# Altium footprint library PcbLib2.PcbLib: 58 footprints (part 4 of 4)
Each footprint in its own frame and in the unit in brackets; x right, y up, seen from the top. Pads: shape width x height; smd on the part's side, far side on the other; paste and mask are expansions set on the pad; w line width, h text height; cw(c..) or ccw(c..) is an arc to the next point about the centre after c.
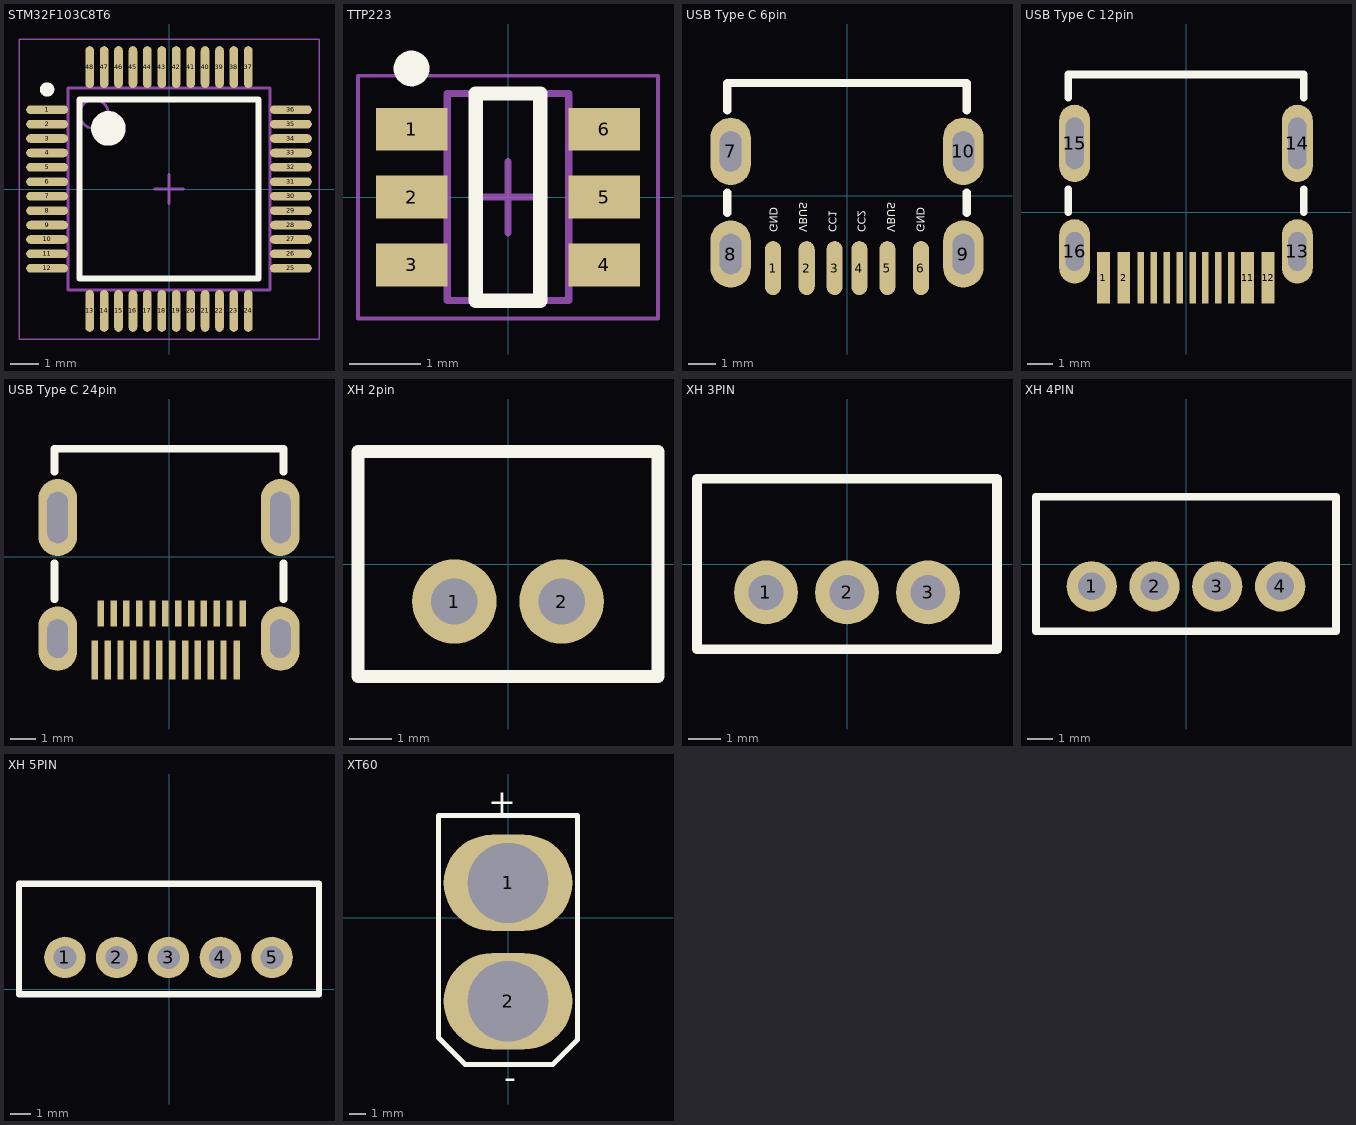
[diagram p3: the footprints below, top view; thin cyan lines are the x and y axes]

## STM32F103C8T6 [mm] "TSQFP, 48-Leads, Body 7.00x7.00mm, Pitch 0.50mm, IPC Medium Density"
height 1.6
pads (48):
  oval 1.45x0.3 smd: 1(-4.225,2.75) 2(-4.225,2.25) 3(-4.225,1.75) 4(-4.225,1.25) 5(-4.225,0.75) 6(-4.225,0.25) 7(-4.225,-0.25) 8(-4.225,-0.75) 9(-4.225,-1.25) 10(-4.225,-1.75) 11(-4.225,-2.25) 12(-4.225,-2.75) 25(4.225,-2.75) 26(4.225,-2.25) 27(4.225,-1.75) 28(4.225,-1.25) 29(4.225,-0.75) 30(4.225,-0.25) 31(4.225,0.25) 32(4.225,0.75) 33(4.225,1.25) 34(4.225,1.75) 35(4.225,2.25) 36(4.225,2.75)
  oval 0.3x1.45 smd: 13(-2.75,-4.225) 14(-2.25,-4.225) 15(-1.75,-4.225) 16(-1.25,-4.225) 17(-0.75,-4.225) 18(-0.25,-4.225) 19(0.25,-4.225) 20(0.75,-4.225) 21(1.25,-4.225) 22(1.75,-4.225) 23(2.25,-4.225) 24(2.75,-4.225) 37(2.75,4.225) 38(2.25,4.225) 39(1.75,4.225) 40(1.25,4.225) 41(0.75,4.225) 42(0.25,4.225) 43(-0.25,4.225) 44(-0.75,4.225) 45(-1.25,4.225) 46(-1.75,4.225) 47(-2.25,4.225) 48(-2.75,4.225)
Top Overlay:
  circle w0.25: c-4.225,3.45 r0.125
  circle w0.6: c-2.1,2.1 r0.3
  lines w0.2: -3.1,-3.1 -3.1,3.1 3.1,3.1 3.1,-3.1 -3.1,-3.1
Mechanical 13:
  circle w0.1: c-2.6,2.6 r0.5
  lines w0.1: -3.5,-3.5 -3.5,3.5 3.5,3.5 3.5,-3.5 -3.5,-3.5
Mechanical 15:
  lines w0.05: -5.2,-5.2 -5.2,5.2 5.2,5.2 5.2,-5.2 -5.2,-5.2
  lines w0.1: -0.5,0 0.5,0 ; 0,-0.5 0,0.5
3D body "TSQFP50P900X900X160-48N.step": height 1.6, standoff 0, extent -4.5,-4.5 4.5,4.5

## TTP223 [mm] "SOT23, 6-Leads, Body 2.90x2.85mm, Pitch 0.95mm, IPC Medium Density"
height 1.26
pads (6):
  rect 1x0.6 smd: 1(-1.35,0.95) 2(-1.35,0) 3(-1.35,-0.95) 4(1.35,-0.95) 5(1.35,0) 6(1.35,0.95)
Top Overlay:
  circle w0.25: c-1.35,1.8 r0.125
  lines w0.2: -0.45,-1.45 -0.45,1.45 0.45,1.45 0.45,-1.45 -0.45,-1.45
Mechanical 13:
  lines w0.1: -0.85,-1.45 0.85,-1.45 0.85,1.45 -0.85,1.45 -0.85,-1.45
Mechanical 15:
  lines w0.05: -2.1,-1.7 2.1,-1.7 2.1,1.7 -2.1,1.7 -2.1,-1.7
  lines w0.1: -0.5,0 0.5,0 ; 0,-0.5 0,0.5
3D body "SOT95P285X126-6N.step": height 1.26, standoff 0, extent -1.475,-1.45 1.475,1.45

## USB Type C 6pin [mm]
pads (10):
  oval 0.6x2 smd: 1(-2.747,-2.681) 2(-1.497,-2.681) 3(-0.459,-2.681) 4(0.459,-2.681) 5(1.498,-2.681) 6(2.747,-2.681)
  oval 1.5x2.5 hole 0.8 slot 1.5 at 90 deg: 7(-4.318,1.651) 8(-4.318,-2.159) 9(4.318,-2.159) 10(4.318,1.651)
Top Overlay:
  lines w0.3: -4.445,-0.635 -4.445,0.127 ; -4.445,3.175 -4.445,4.191 4.445,4.191 4.445,3.175 ; 4.445,-0.635 4.445,0.127
  text "GND" at 2.592,-1.353 h0.3
  text "VBUS" at 1.5,-1.353 h0.3
  text "CC2" at 0.407,-1.353 h0.3
  text "CC1" at -0.685,-1.353 h0.3
  text "VBUS" at -1.777,-1.353 h0.3
  text "GND" at -2.869,-1.353 h0.3
3D body "USB Connector Type C female 6pin.STEP": height 3.3, standoff -0.92, extent -4.47,-2.679 4.47,4.191

## USB Type C 12pin [mm]
pads (16):
  rect 0.5x2 smd: 1(-3.204,-2.543) 2(-2.413,-2.543) 11(2.387,-2.543) 12(3.186,-2.543)
  rect 0.25x2 smd: 3(-1.747,-2.543) 4(-1.246,-2.543) 5(-0.746,-2.543) 6(-0.246,-2.543) 7(0.255,-2.543) 8(0.755,-2.543) 9(1.255,-2.543) 10(1.755,-2.543)
  oval 1.2x2.5 hole 0.7 slot 1.5 at 90 deg: 13(4.318,-1.524) 16(-4.318,-1.524)
  oval 1.2x3 hole 0.7 slot 2 at 90 deg: 14(4.318,2.667) 15(-4.318,2.667)
Top Overlay:
  lines w0.3: -4.572,0 -4.572,0.889 ; -4.572,4.445 -4.572,5.334 4.572,5.334 4.572,4.445 ; 4.572,0 4.572,0.889
3D body "USB_type_C_smd_12p.stp": height 3.2, standoff -1.27, extent -4.6,-2.616 4.6,5.334

## USB Type C 24pin [mm]
pads (28):
  rect 0.25x1.5 smd: 1(-2.881,-4) 2(-2.381,-4) 3(-1.882,-4) 4(-1.382,-4) 5(-0.873,-4) 6(-0.383,-4) 7(0.126,-4) 8(0.626,-4) 9(1.116,-4) 10(1.615,-4) 11(2.115,-4) 12(2.624,-4)
  oval 1.5x2.5 hole 0.8 slot 1.5 at 90 deg: ""(-4.318,-3.175) ""(4.318,-3.175)
  oval 1.5x3 hole 0.8 slot 2 at 90 deg: ""(-4.318,1.524) ""(4.318,1.524)
  rect 0.25x1 smd: ""(-2.649,-2.2) ""(-2.149,-2.2) ""(-1.65,-2.2) ""(-1.15,-2.2) ""(-0.641,-2.2) ""(-0.151,-2.2) ""(0.358,-2.2) ""(0.858,-2.2) ""(1.347,-2.2) ""(1.847,-2.2) ""(2.346,-2.2) ""(2.856,-2.2)
Top Overlay:
  lines w0.3: -4.445,-1.651 -4.445,-0.254 ; -4.445,3.302 -4.445,4.191 4.445,4.191 4.445,3.302 ; 4.445,-1.651 4.445,-0.254
3D body "USB_type_C_smd_24p.stp": height 3.15, standoff -0.6, extent -4.5,-3.859 4.5,4.191

## XH 2pin [mm]
pads (2):
  round 2 hole 1.1: 1(-1.27,-0.889) 2(1.27,-0.889)
Top Overlay:
  lines w0.3: -3.556,-2.667 -3.556,2.667 3.556,2.667 3.556,-2.667 -3.556,-2.667
3D body "XH 2,54_2p.STEP": height 7, standoff -3.4, extent -3.7,-2.875 3.7,2.875

## XH 3PIN [mm]
pads (3):
  round 2 hole 1.1: 1(-2.54,-0.889) 2(0,-0.889) 3(2.54,-0.889)
Top Overlay:
  lines w0.3: -4.699,-2.667 -4.699,2.667 4.699,2.667 4.699,-2.667 -4.699,-2.667
3D body "XH 2,54_3p.STEP": height 7, standoff -3.4, extent -4.95,-2.875 4.95,2.875

## XH 4PIN [mm]
pads (4):
  round 2 hole 1.1: 1(-3.753,-0.889) 2(-1.253,-0.889) 3(1.247,-0.889) 4(3.747,-0.889)
Top Overlay:
  lines w0.3: -5.969,-2.667 5.969,-2.667 5.969,2.667 -5.969,2.667 -5.969,-2.667
3D body "XH 2,54_4p.STEP": height 7, standoff -3.4, extent -6.2,-2.875 6.2,2.875

## XH 5PIN [mm]
pads (5):
  round 2 hole 1.1: 1(-5.023,1.524) 2(-2.523,1.524) 3(-0.023,1.524) 4(2.477,1.524) 5(4.977,1.524)
Top Overlay:
  lines w0.3: -7.239,-0.254 7.239,-0.254 7.239,5.08 -7.239,5.08 -7.239,-0.254
3D body "XH 2,54_5p.STEP": height 7, standoff -3.4, extent -7.45,-0.462 7.45,5.288

## XT60 [mm]
pads (2):
  oval 8x6 hole 5: 1(0,2.159) 2(0,-5.207)
Top Overlay:
  lines w0.3: -4.318,-7.493 -4.318,6.35 4.318,6.35 4.318,-7.62 2.794,-9.144 -2.667,-9.144 -4.318,-7.493
  text "+" at 0.508,6.477 h1.52
  text "-" at 0.508,-10.668 h1.52
3D body "XT60FemaleConnector.STEP": height 16, standoff -4.5, extent -3.75,-9.725 3.75,6.825